# EAGLE library part SN74S140 (library ICs)
Four input NAND gate, dual, fast.
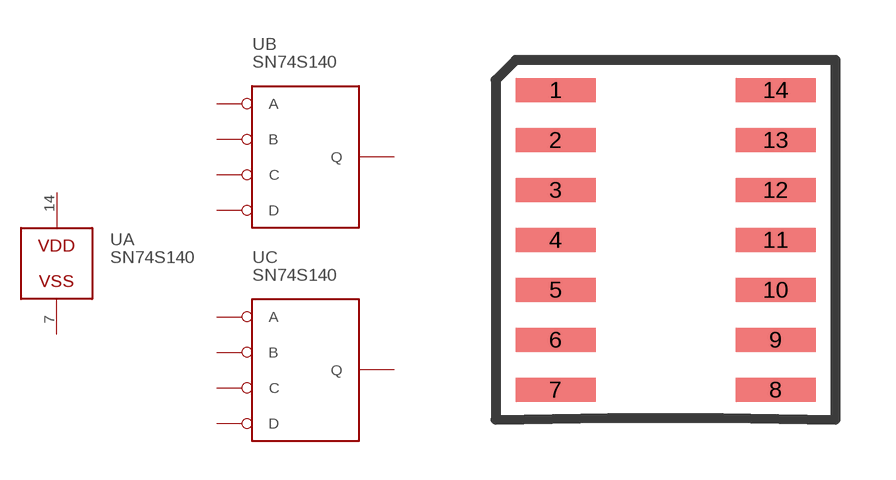
[diagram p22: symbol with the pads of SO14; footprint SO14]

Designator prefix U; gates A=PWR B=AND C=AND

## SN74S140D (FARNELL: 1236469)  [SO14]
1  B:A
2  B:B
4  B:C
5  B:D
6  B:Q
7  A:GND
8  C:Q
9  C:A
10  C:B
12  C:C
13  C:D
14  A:V+

## Footprint SO14 (pad centres in mm)
smd 2 x 0.6: 1 -2.75,3.75; 2 -2.75,2.5; 3 -2.75,1.25; 4 -2.75,0; 5 -2.75,-1.25; 6 -2.75,-2.5; 7 -2.75,-3.75; 8 2.75,-3.75; 9 2.75,-2.5; 10 2.75,-1.25; 11 2.75,0; 12 2.75,1.25; 13 2.75,2.5; 14 2.75,3.75